# Altium schematic symbol library WCAP-AIE8.SchLib: 31 symbols
Pins are listed as number, name and electrical type; pins without a type are passive.

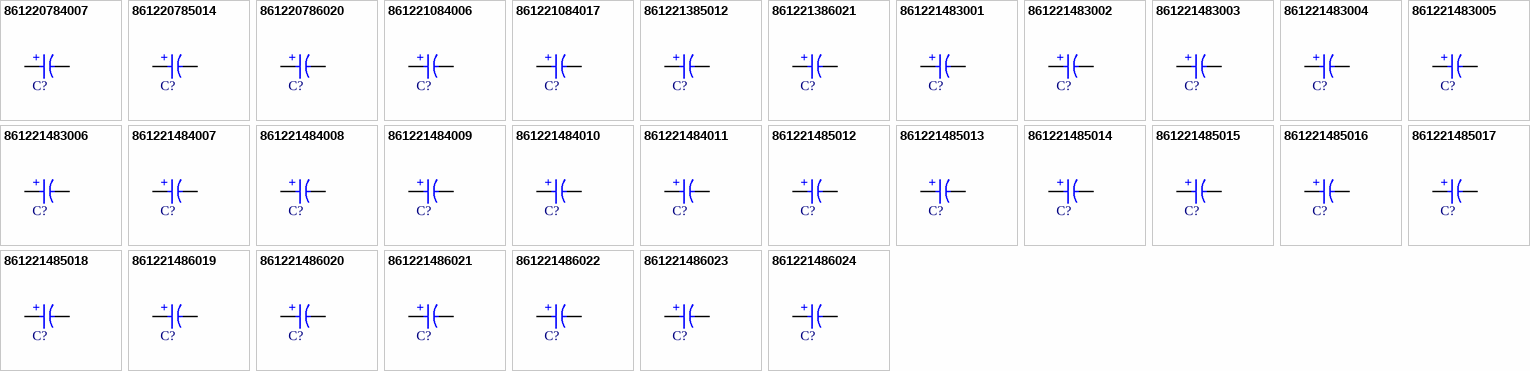
[diagram p0: symbols 861220784007 to 861221486024]

## 861220784007
designator C?, comment 3300µF  (value not drawn)
WCAP-AIE8 Aluminum Electrolytic Capacitor, Snap-In, D25 x H30mm, 3300µF, 63V; Manufacturer Part Number: 861220784007; Manufacturer: Wurth Elektronik; Capacitance Tolerance: +/-20%; Dissipation Factor: 20%; Endurance: 3000h; Leakage Current: 1367.88µA; Ripple Current: 2740mA; Technical Reference: ANBO300332M063DSIC3C000; Category: Aluminum Electrolytic Capacitors; Match Code: WCAP-AIE8; ComponentLink1Description: Website Link; ComponentLink1URL: https://www.we-online.com/redexpert/article/861220784007?ad; ComponentLink2Description: Datasheet Link; ComponentLink2URL: https://www.we-online.com/redexpert/spec/861220784007?ad; Mount: Through Hole; Operating Temperature Max: 85°C; Operating Temperature Min: -40°C; Packaging: Tray; Height: 30mm; Diameter: 25mm; Capacitance: 3300µF; Rated Voltage (DC): 63V
footprint WCAP-AIE8_D25H30
simulation model 861220784007_3.3mF
pins: 1 P, 2 N
text: +

## 861220785014
designator C?, comment 4700µF  (value not drawn)
WCAP-AIE8 Aluminum Electrolytic Capacitor, Snap-In, D30 x H30mm, 4700µF, 63V; Manufacturer Part Number: 861220785014; Manufacturer: Wurth Elektronik; Capacitance Tolerance: +/-20%; Dissipation Factor: 30%; Endurance: 3000h; Leakage Current: 1632.45µA; Ripple Current: 3540mA; Technical Reference: ANBP300472M063DSIC2C000; Category: Aluminum Electrolytic Capacitors; Match Code: WCAP-AIE8; ComponentLink1Description: Website Link; ComponentLink1URL: https://www.we-online.com/redexpert/article/861220785014?ad; ComponentLink2Description: Datasheet Link; ComponentLink2URL: https://www.we-online.com/redexpert/spec/861220785014?ad; Mount: Through Hole; Operating Temperature Max: 85°C; Operating Temperature Min: -40°C; Packaging: Tray; Height: 30mm; Diameter: 30mm; Capacitance: 4700µF; Rated Voltage (DC): 63V
footprint WCAP-AIE8_D30H30
simulation model 861220785014_4.7mF
pins: 1 P, 2 N
text: +

## 861220786020
designator C?, comment 6800µF  (value not drawn)
WCAP-AIE8 Aluminum Electrolytic Capacitor, Snap-In, D35 x H30mm, 6800µF, 63V; Manufacturer Part Number: 861220786020; Manufacturer: Wurth Elektronik; Capacitance Tolerance: +/-20%; Dissipation Factor: 30%; Endurance: 3000h; Leakage Current: 1963.57µA; Ripple Current: 4440mA; Technical Reference: ANBQ300682M063DSIC2C000; Category: Aluminum Electrolytic Capacitors; Match Code: WCAP-AIE8; ComponentLink1Description: Website Link; ComponentLink1URL: https://www.we-online.com/redexpert/article/861220786020?ad; ComponentLink2Description: Datasheet Link; ComponentLink2URL: https://www.we-online.com/redexpert/spec/861220786020?ad; Mount: Through Hole; Operating Temperature Max: 85°C; Operating Temperature Min: -40°C; Packaging: Tray; Height: 30mm; Diameter: 35mm; Capacitance: 6800µF; Rated Voltage (DC): 63V
footprint WCAP-AIE8_D35H30
simulation model 861220786020_6.8mF
pins: 1 P, 2 N
text: +

## 861221084006
designator C?, comment 470µF  (value not drawn)
WCAP-AIE8 Aluminum Electrolytic Capacitor, Snap-In, D25 x H25mm, 470µF, 200V; Manufacturer Part Number: 861221084006; Manufacturer: Wurth Elektronik; Capacitance Tolerance: +/-20%; Dissipation Factor: 15%; Endurance: 3000h; Leakage Current: 919.78µA; Ripple Current: 1950mA; Technical Reference: ANAO250471M200DSIC3C000; Category: Aluminum Electrolytic Capacitors; Match Code: WCAP-AIE8; ComponentLink1Description: Website Link; ComponentLink1URL: https://www.we-online.com/redexpert/article/861221084006?ad; ComponentLink2Description: Datasheet Link; ComponentLink2URL: https://www.we-online.com/redexpert/spec/861221084006?ad; Mount: Through Hole; Operating Temperature Max: 85°C; Operating Temperature Min: -25°C; Packaging: Tray; Height: 25mm; Diameter: 25mm; Capacitance: 470µF; Rated Voltage (DC): 200V
footprint WCAP-AIE8_D25H25
simulation model 861221084006_0.47mF
pins: 1 P, 2 N
text: +

## 861221084017
designator C?, comment 1000µF  (value not drawn)
WCAP-AIE8 Aluminum Electrolytic Capacitor, Snap-In, D25 x H40mm, 1000µF, 200V; Manufacturer Part Number: 861221084017; Manufacturer: Wurth Elektronik; Capacitance Tolerance: +/-20%; Dissipation Factor: 15%; Endurance: 3000h; Leakage Current: 1341.64µA; Ripple Current: 3280mA; Technical Reference: ANAO400102M200DSIC3C000; Category: Aluminum Electrolytic Capacitors; Match Code: WCAP-AIE8; ComponentLink1Description: Website Link; ComponentLink1URL: https://www.we-online.com/redexpert/article/861221084017?ad; ComponentLink2Description: Datasheet Link; ComponentLink2URL: https://www.we-online.com/redexpert/spec/861221084017?ad; Mount: Through Hole; Operating Temperature Max: 85°C; Operating Temperature Min: -25°C; Packaging: Tray; Height: 40mm; Diameter: 25mm; Capacitance: 1000µF; Rated Voltage (DC): 200V
footprint WCAP-AIE8_D25H40
simulation model 861221084017_1mF
pins: 1 P, 2 N
text: +

## 861221385012
designator C?, comment 220µF  (value not drawn)
WCAP-AIE8 Aluminum Electrolytic Capacitor, Snap-In, D30 x H30mm, 220µF, 400V; Manufacturer Part Number: 861221385012; Manufacturer: Wurth Elektronik; Capacitance Tolerance: +/-20%; Dissipation Factor: 20%; Endurance: 3000h; Leakage Current: 889.94µA; Ripple Current: 1660mA; Technical Reference: ANAP300221M400DSIC2C000; Category: Aluminum Electrolytic Capacitors; Match Code: WCAP-AIE8; ComponentLink1Description: Website Link; ComponentLink1URL: https://www.we-online.com/redexpert/article/861221385012?ad; ComponentLink2Description: Datasheet Link; ComponentLink2URL: https://www.we-online.com/redexpert/spec/861221385012?ad; Mount: Through Hole; Operating Temperature Max: 85°C; Operating Temperature Min: -25°C; Packaging: Tray; Height: 30mm; Diameter: 30mm; Capacitance: 220µF; Rated Voltage (DC): 400V
footprint WCAP-AIE8_D30H30
simulation model 861221385012_0.22mF
pins: 1 P, 2 N
text: +

## 861221386021
designator C?, comment 470µF  (value not drawn)
WCAP-AIE8 Aluminum Electrolytic Capacitor, Snap-In, D35 x H35mm, 470µF, 400V; Manufacturer Part Number: 861221386021; Manufacturer: Wurth Elektronik; Capacitance Tolerance: +/-20%; Dissipation Factor: 20%; Endurance: 3000h; Leakage Current: 1300.77µA; Ripple Current: 2510mA; Technical Reference: ANAQ350471M400DSIC2C000; Category: Aluminum Electrolytic Capacitors; Match Code: WCAP-AIE8; ComponentLink1Description: Website Link; ComponentLink1URL: https://www.we-online.com/redexpert/article/861221386021?ad; ComponentLink2Description: Datasheet Link; ComponentLink2URL: https://www.we-online.com/redexpert/spec/861221386021?ad; Mount: Through Hole; Operating Temperature Max: 85°C; Operating Temperature Min: -25°C; Packaging: Tray; Height: 35mm; Diameter: 35mm; Capacitance: 470µF; Rated Voltage (DC): 400V
footprint WCAP-AIE8_D35H35
simulation model 861221386021_0.47mF
pins: 1 P, 2 N
text: +

## 861221483001
designator C?, comment 68µF  (value not drawn)
WCAP-AIE8 Aluminum Electrolytic Capacitor, Snap-In, D22 x H25mm, 68µF, 450V; Manufacturer Part Number: 861221483001; Manufacturer: Wurth Elektronik; Capacitance Tolerance: +/-20%; Dissipation Factor: 20%; Endurance: 3000h; Leakage Current: 524.79µA; Ripple Current: 710mA; Technical Reference: ANAN250680M450DSIC3C000; Category: Aluminum Electrolytic Capacitors; Match Code: WCAP-AIE8; ComponentLink1Description: Website Link; ComponentLink1URL: https://www.we-online.com/redexpert/article/861221483001?ad; ComponentLink2Description: Datasheet Link; ComponentLink2URL: https://www.we-online.com/redexpert/spec/861221483001?ad; Mount: Through Hole; Operating Temperature Max: 85°C; Operating Temperature Min: -25°C; Packaging: Tray; Height: 25mm; Diameter: 22mm; Capacitance: 68µF; Rated Voltage (DC): 450V
footprint WCAP-AIE8_D22H25
simulation model 861221483001_68uF
pins: 1 P, 2 N
text: +

## 861221483002
designator C?, comment 82µF  (value not drawn)
WCAP-AIE8 Aluminum Electrolytic Capacitor, Snap-In, D22 x H25mm, 82µF, 450V; Manufacturer Part Number: 861221483002; Manufacturer: Wurth Elektronik; Capacitance Tolerance: +/-20%; Dissipation Factor: 20%; Endurance: 3000h; Leakage Current: 576.28µA; Ripple Current: 860mA; Technical Reference: ANAN250820M450DSIC3C000; Category: Aluminum Electrolytic Capacitors; Match Code: WCAP-AIE8; ComponentLink1Description: Website Link; ComponentLink1URL: https://www.we-online.com/redexpert/article/861221483002?ad; ComponentLink2Description: Datasheet Link; ComponentLink2URL: https://www.we-online.com/redexpert/spec/861221483002?ad; Mount: Through Hole; Operating Temperature Max: 85°C; Operating Temperature Min: -25°C; Packaging: Tray; Height: 25mm; Diameter: 22mm; Capacitance: 82µF; Rated Voltage (DC): 450V
footprint WCAP-AIE8_D22H25
simulation model 861221483002_82uF
pins: 1 P, 2 N
text: +

## 861221483003
designator C?, comment 100µF  (value not drawn)
WCAP-AIE8 Aluminum Electrolytic Capacitor, Snap-In, D22 x H30mm, 100µF, 450V; Manufacturer Part Number: 861221483003; Manufacturer: Wurth Elektronik; Capacitance Tolerance: +/-20%; Dissipation Factor: 20%; Endurance: 3000h; Leakage Current: 636.4µA; Ripple Current: 950mA; Technical Reference: ANAN300101M450DSIC3C000; Category: Aluminum Electrolytic Capacitors; Match Code: WCAP-AIE8; ComponentLink1Description: Website Link; ComponentLink1URL: https://www.we-online.com/redexpert/article/861221483003?ad; ComponentLink2Description: Datasheet Link; ComponentLink2URL: https://www.we-online.com/redexpert/spec/861221483003?ad; Mount: Through Hole; Operating Temperature Max: 85°C; Operating Temperature Min: -25°C; Packaging: Tray; Height: 30mm; Diameter: 22mm; Capacitance: 100µF; Rated Voltage (DC): 450V
footprint WCAP-AIE8_D22H30
simulation model 861221483003_0.1mF
pins: 1 P, 2 N
text: +

## 861221483004
designator C?, comment 120µF  (value not drawn)
WCAP-AIE8 Aluminum Electrolytic Capacitor, Snap-In, D22 x H35mm, 120µF, 450V; Manufacturer Part Number: 861221483004; Manufacturer: Wurth Elektronik; Capacitance Tolerance: +/-20%; Dissipation Factor: 20%; Endurance: 3000h; Leakage Current: 697.14µA; Ripple Current: 1070mA; Technical Reference: ANAN350121M450DSIC3C000; Category: Aluminum Electrolytic Capacitors; Match Code: WCAP-AIE8; ComponentLink1Description: Website Link; ComponentLink1URL: https://www.we-online.com/redexpert/article/861221483004?ad; ComponentLink2Description: Datasheet Link; ComponentLink2URL: https://www.we-online.com/redexpert/spec/861221483004?ad; Mount: Through Hole; Operating Temperature Max: 85°C; Operating Temperature Min: -25°C; Packaging: Tray; Height: 35mm; Diameter: 22mm; Capacitance: 120µF; Rated Voltage (DC): 450V
footprint WCAP-AIE8_D22H35
simulation model 861221483004_0.12mF
pins: 1 P, 2 N
text: +

## 861221483005
designator C?, comment 150µF  (value not drawn)
WCAP-AIE8 Aluminum Electrolytic Capacitor, Snap-In, D22 x H40mm, 150µF, 450V; Manufacturer Part Number: 861221483005; Manufacturer: Wurth Elektronik; Capacitance Tolerance: +/-20%; Dissipation Factor: 20%; Endurance: 3000h; Leakage Current: 779.42µA; Ripple Current: 1180mA; Technical Reference: ANAN400151M450DSIC3C000; Category: Aluminum Electrolytic Capacitors; Match Code: WCAP-AIE8; ComponentLink1Description: Website Link; ComponentLink1URL: https://www.we-online.com/redexpert/article/861221483005?ad; ComponentLink2Description: Datasheet Link; ComponentLink2URL: https://www.we-online.com/redexpert/spec/861221483005?ad; Mount: Through Hole; Operating Temperature Max: 85°C; Operating Temperature Min: -25°C; Packaging: Tray; Height: 40mm; Diameter: 22mm; Capacitance: 150µF; Rated Voltage (DC): 450V
footprint WCAP-AIE8_D22H40
simulation model 861221483005_0.15mF
pins: 1 P, 2 N
text: +

## 861221483006
designator C?, comment 180µF  (value not drawn)
WCAP-AIE8 Aluminum Electrolytic Capacitor, Snap-In, D22 x H45mm, 180µF, 450V; Manufacturer Part Number: 861221483006; Manufacturer: Wurth Elektronik; Capacitance Tolerance: +/-20%; Dissipation Factor: 20%; Endurance: 3000h; Leakage Current: 853.81µA; Ripple Current: 1320mA; Technical Reference: ANAN450181M450DSIC3C000; Category: Aluminum Electrolytic Capacitors; Match Code: WCAP-AIE8; ComponentLink1Description: Website Link; ComponentLink1URL: https://www.we-online.com/redexpert/article/861221483006?ad; ComponentLink2Description: Datasheet Link; ComponentLink2URL: https://www.we-online.com/redexpert/spec/861221483006?ad; Mount: Through Hole; Operating Temperature Max: 85°C; Operating Temperature Min: -25°C; Packaging: Tray; Height: 45mm; Diameter: 22mm; Capacitance: 180µF; Rated Voltage (DC): 450V
footprint WCAP-AIE8_D22H45
simulation model 861221483006_0.18mF
pins: 1 P, 2 N
text: +

## 861221484007
designator C?, comment 100µF  (value not drawn)
WCAP-AIE8 Aluminum Electrolytic Capacitor, Snap-In, D25 x H25mm, 100µF, 450V; Manufacturer Part Number: 861221484007; Manufacturer: Wurth Elektronik; Capacitance Tolerance: +/-20%; Dissipation Factor: 20%; Endurance: 3000h; Leakage Current: 636.4µA; Ripple Current: 970mA; Technical Reference: ANAO250101M450DSIC3C000; Category: Aluminum Electrolytic Capacitors; Match Code: WCAP-AIE8; ComponentLink1Description: Website Link; ComponentLink1URL: https://www.we-online.com/redexpert/article/861221484007?ad; ComponentLink2Description: Datasheet Link; ComponentLink2URL: https://www.we-online.com/redexpert/spec/861221484007?ad; Mount: Through Hole; Operating Temperature Max: 85°C; Operating Temperature Min: -25°C; Packaging: Tray; Height: 25mm; Diameter: 25mm; Capacitance: 100µF; Rated Voltage (DC): 450V
footprint WCAP-AIE8_D25H25
simulation model 861221484007_0.1mF
pins: 1 P, 2 N
text: +

## 861221484008
designator C?, comment 120µF  (value not drawn)
WCAP-AIE8 Aluminum Electrolytic Capacitor, Snap-In, D25 x H30mm, 120µF, 450V; Manufacturer Part Number: 861221484008; Manufacturer: Wurth Elektronik; Capacitance Tolerance: +/-20%; Dissipation Factor: 20%; Endurance: 3000h; Leakage Current: 697.14µA; Ripple Current: 1090mA; Technical Reference: ANAO300121M450DSIC3C000; Category: Aluminum Electrolytic Capacitors; Match Code: WCAP-AIE8; ComponentLink1Description: Website Link; ComponentLink1URL: https://www.we-online.com/redexpert/article/861221484008?ad; ComponentLink2Description: Datasheet Link; ComponentLink2URL: https://www.we-online.com/redexpert/spec/861221484008?ad; Mount: Through Hole; Operating Temperature Max: 85°C; Operating Temperature Min: -25°C; Packaging: Tray; Height: 30mm; Diameter: 25mm; Capacitance: 120µF; Rated Voltage (DC): 450V
footprint WCAP-AIE8_D25H30
simulation model 861221484008_0.12mF
pins: 1 P, 2 N
text: +

## 861221484009
designator C?, comment 150µF  (value not drawn)
WCAP-AIE8 Aluminum Electrolytic Capacitor, Snap-In, D25 x H30mm, 150µF, 450V; Manufacturer Part Number: 861221484009; Manufacturer: Wurth Elektronik; Capacitance Tolerance: +/-20%; Dissipation Factor: 20%; Endurance: 3000h; Leakage Current: 779.42µA; Ripple Current: 1250mA; Technical Reference: ANAO300151M450DSIC3C000; Category: Aluminum Electrolytic Capacitors; Match Code: WCAP-AIE8; ComponentLink1Description: Website Link; ComponentLink1URL: https://www.we-online.com/redexpert/article/861221484009?ad; ComponentLink2Description: Datasheet Link; ComponentLink2URL: https://www.we-online.com/redexpert/spec/861221484009?ad; Mount: Through Hole; Operating Temperature Max: 85°C; Operating Temperature Min: -25°C; Packaging: Tray; Height: 30mm; Diameter: 25mm; Capacitance: 150µF; Rated Voltage (DC): 450V
footprint WCAP-AIE8_D25H30
simulation model 861221484009_0.15mF
pins: 1 P, 2 N
text: +

## 861221484010
designator C?, comment 180µF  (value not drawn)
WCAP-AIE8 Aluminum Electrolytic Capacitor, Snap-In, D25 x H35mm, 180µF, 450V; Manufacturer Part Number: 861221484010; Manufacturer: Wurth Elektronik; Capacitance Tolerance: +/-20%; Dissipation Factor: 20%; Endurance: 3000h; Leakage Current: 853.81µA; Ripple Current: 1400mA; Technical Reference: ANAO350181M450DSIC3C000; Category: Aluminum Electrolytic Capacitors; Match Code: WCAP-AIE8; ComponentLink1Description: Website Link; ComponentLink1URL: https://www.we-online.com/redexpert/article/861221484010?ad; ComponentLink2Description: Datasheet Link; ComponentLink2URL: https://www.we-online.com/redexpert/spec/861221484010?ad; Mount: Through Hole; Operating Temperature Max: 85°C; Operating Temperature Min: -25°C; Packaging: Tray; Height: 35mm; Diameter: 25mm; Capacitance: 180µF; Rated Voltage (DC): 450V
footprint WCAP-AIE8_D25H35
simulation model 861221484010_0.18mF
pins: 1 P, 2 N
text: +

## 861221484011
designator C?, comment 220µF  (value not drawn)
WCAP-AIE8 Aluminum Electrolytic Capacitor, Snap-In, D25 x H40mm, 220µF, 450V; Manufacturer Part Number: 861221484011; Manufacturer: Wurth Elektronik; Capacitance Tolerance: +/-20%; Dissipation Factor: 20%; Endurance: 3000h; Leakage Current: 943.93µA; Ripple Current: 1590mA; Technical Reference: ANAO400221M450DSIC3C000; Category: Aluminum Electrolytic Capacitors; Match Code: WCAP-AIE8; ComponentLink1Description: Website Link; ComponentLink1URL: https://www.we-online.com/redexpert/article/861221484011?ad; ComponentLink2Description: Datasheet Link; ComponentLink2URL: https://www.we-online.com/redexpert/spec/861221484011?ad; Mount: Through Hole; Operating Temperature Max: 85°C; Operating Temperature Min: -25°C; Packaging: Tray; Height: 40mm; Diameter: 25mm; Capacitance: 220µF; Rated Voltage (DC): 450V
footprint WCAP-AIE8_D25H40
simulation model 861221484011_0.22mF
pins: 1 P, 2 N
text: +

## 861221485012
designator C?, comment 120µF  (value not drawn)
WCAP-AIE8 Aluminum Electrolytic Capacitor, Snap-In, D30 x H25mm, 120µF, 450V; Manufacturer Part Number: 861221485012; Manufacturer: Wurth Elektronik; Capacitance Tolerance: +/-20%; Dissipation Factor: 20%; Endurance: 3000h; Leakage Current: 697.14µA; Ripple Current: 1120mA; Technical Reference: ANAP250121M450DSIC2C000; Category: Aluminum Electrolytic Capacitors; Match Code: WCAP-AIE8; ComponentLink1Description: Website Link; ComponentLink1URL: https://www.we-online.com/redexpert/article/861221485012?ad; ComponentLink2Description: Datasheet Link; ComponentLink2URL: https://www.we-online.com/redexpert/spec/861221485012?ad; Mount: Through Hole; Operating Temperature Max: 85°C; Operating Temperature Min: -25°C; Packaging: Tray; Height: 25mm; Diameter: 30mm; Capacitance: 120µF; Rated Voltage (DC): 450V
footprint WCAP-AIE8_D30H25
simulation model 861221485012_0.12mF
pins: 1 P, 2 N
text: +

## 861221485013
designator C?, comment 150µF  (value not drawn)
WCAP-AIE8 Aluminum Electrolytic Capacitor, Snap-In, D30 x H25mm, 150µF, 450V; Manufacturer Part Number: 861221485013; Manufacturer: Wurth Elektronik; Capacitance Tolerance: +/-20%; Dissipation Factor: 20%; Endurance: 3000h; Leakage Current: 779.42µA; Ripple Current: 1290mA; Technical Reference: ANAP250151M450DSIC2C000; Category: Aluminum Electrolytic Capacitors; Match Code: WCAP-AIE8; ComponentLink1Description: Website Link; ComponentLink1URL: https://www.we-online.com/redexpert/article/861221485013?ad; ComponentLink2Description: Datasheet Link; ComponentLink2URL: https://www.we-online.com/redexpert/spec/861221485013?ad; Mount: Through Hole; Operating Temperature Max: 85°C; Operating Temperature Min: -25°C; Packaging: Tray; Height: 25mm; Diameter: 30mm; Capacitance: 150µF; Rated Voltage (DC): 450V
footprint WCAP-AIE8_D30H25
simulation model 861221485013_0.15mF
pins: 1 P, 2 N
text: +

## 861221485014
designator C?, comment 180µF  (value not drawn)
WCAP-AIE8 Aluminum Electrolytic Capacitor, Snap-In, D30 x H30mm, 180µF, 450V; Manufacturer Part Number: 861221485014; Manufacturer: Wurth Elektronik; Capacitance Tolerance: +/-20%; Dissipation Factor: 20%; Endurance: 3000h; Leakage Current: 853.81µA; Ripple Current: 1450mA; Technical Reference: ANAP300181M450DSIC2C000; Category: Aluminum Electrolytic Capacitors; Match Code: WCAP-AIE8; ComponentLink1Description: Website Link; ComponentLink1URL: https://www.we-online.com/redexpert/article/861221485014?ad; ComponentLink2Description: Datasheet Link; ComponentLink2URL: https://www.we-online.com/redexpert/spec/861221485014?ad; Mount: Through Hole; Operating Temperature Max: 85°C; Operating Temperature Min: -25°C; Packaging: Tray; Height: 30mm; Diameter: 30mm; Capacitance: 180µF; Rated Voltage (DC): 450V
footprint WCAP-AIE8_D30H30
simulation model 861221485014_0.18mF
pins: 1 P, 2 N
text: +

## 861221485015
designator C?, comment 220µF  (value not drawn)
WCAP-AIE8 Aluminum Electrolytic Capacitor, Snap-In, D30 x H30mm, 220µF, 450V; Manufacturer Part Number: 861221485015; Manufacturer: Wurth Elektronik; Capacitance Tolerance: +/-20%; Dissipation Factor: 20%; Endurance: 3000h; Leakage Current: 943.93µA; Ripple Current: 1640mA; Technical Reference: ANAP300221M450DSIC2C000; Category: Aluminum Electrolytic Capacitors; Match Code: WCAP-AIE8; ComponentLink1Description: Website Link; ComponentLink1URL: https://www.we-online.com/redexpert/article/861221485015?ad; ComponentLink2Description: Datasheet Link; ComponentLink2URL: https://www.we-online.com/redexpert/spec/861221485015?ad; Mount: Through Hole; Operating Temperature Max: 85°C; Operating Temperature Min: -25°C; Packaging: Tray; Height: 30mm; Diameter: 30mm; Capacitance: 220µF; Rated Voltage (DC): 450V
footprint WCAP-AIE8_D30H30
simulation model 861221485015_0.22mF
pins: 1 P, 2 N
text: +

## 861221485016
designator C?, comment 270µF  (value not drawn)
WCAP-AIE8 Aluminum Electrolytic Capacitor, Snap-In, D30 x H35mm, 270µF, 450V; Manufacturer Part Number: 861221485016; Manufacturer: Wurth Elektronik; Capacitance Tolerance: +/-20%; Dissipation Factor: 20%; Endurance: 3000h; Leakage Current: 1045.71µA; Ripple Current: 1890mA; Technical Reference: ANAP350271M450DSIC2C000; Category: Aluminum Electrolytic Capacitors; Match Code: WCAP-AIE8; ComponentLink1Description: Website Link; ComponentLink1URL: https://www.we-online.com/redexpert/article/861221485016?ad; ComponentLink2Description: Datasheet Link; ComponentLink2URL: https://www.we-online.com/redexpert/spec/861221485016?ad; Mount: Through Hole; Operating Temperature Max: 85°C; Operating Temperature Min: -25°C; Packaging: Tray; Height: 35mm; Diameter: 30mm; Capacitance: 270µF; Rated Voltage (DC): 450V
footprint WCAP-AIE8_D30H35
simulation model 861221485016_0.27mF
pins: 1 P, 2 N
text: +

## 861221485017
designator C?, comment 330µF  (value not drawn)
WCAP-AIE8 Aluminum Electrolytic Capacitor, Snap-In, D30 x H40mm, 330µF, 450V; Manufacturer Part Number: 861221485017; Manufacturer: Wurth Elektronik; Capacitance Tolerance: +/-20%; Dissipation Factor: 20%; Endurance: 3000h; Leakage Current: 1156.07µA; Ripple Current: 2120mA; Technical Reference: ANAP400331M450DSIC2C000; Category: Aluminum Electrolytic Capacitors; Match Code: WCAP-AIE8; ComponentLink1Description: Website Link; ComponentLink1URL: https://www.we-online.com/redexpert/article/861221485017?ad; ComponentLink2Description: Datasheet Link; ComponentLink2URL: https://www.we-online.com/redexpert/spec/861221485017?ad; Mount: Through Hole; Operating Temperature Max: 85°C; Operating Temperature Min: -25°C; Packaging: Tray; Height: 40mm; Diameter: 30mm; Capacitance: 330µF; Rated Voltage (DC): 450V
footprint WCAP-AIE8_D30H40
simulation model 861221485017_0.33mF
pins: 1 P, 2 N
text: +

## 861221485018
designator C?, comment 390µF  (value not drawn)
WCAP-AIE8 Aluminum Electrolytic Capacitor, Snap-In, D30 x H45mm, 390µF, 450V; Manufacturer Part Number: 861221485018; Manufacturer: Wurth Elektronik; Capacitance Tolerance: +/-20%; Dissipation Factor: 20%; Endurance: 3000h; Leakage Current: 1256.78µA; Ripple Current: 2350mA; Technical Reference: ANAP450391M450DSIC2C000; Category: Aluminum Electrolytic Capacitors; Match Code: WCAP-AIE8; ComponentLink1Description: Website Link; ComponentLink1URL: https://www.we-online.com/redexpert/article/861221485018?ad; ComponentLink2Description: Datasheet Link; ComponentLink2URL: https://www.we-online.com/redexpert/spec/861221485018?ad; Mount: Through Hole; Operating Temperature Max: 85°C; Operating Temperature Min: -25°C; Packaging: Tray; Height: 45mm; Diameter: 30mm; Capacitance: 390µF; Rated Voltage (DC): 450V
footprint WCAP-AIE8_D30H45
simulation model 861221485018_0.39mF
pins: 1 P, 2 N
text: +

## 861221486019
designator C?, comment 220µF  (value not drawn)
WCAP-AIE8 Aluminum Electrolytic Capacitor, Snap-In, D35 x H25mm, 220µF, 450V; Manufacturer Part Number: 861221486019; Manufacturer: Wurth Elektronik; Capacitance Tolerance: +/-20%; Dissipation Factor: 20%; Endurance: 3000h; Leakage Current: 943.93µA; Ripple Current: 1590mA; Technical Reference: ANAQ250221M450DSIC2C000; Category: Aluminum Electrolytic Capacitors; Match Code: WCAP-AIE8; ComponentLink1Description: Website Link; ComponentLink1URL: https://www.we-online.com/redexpert/article/861221486019?ad; ComponentLink2Description: Datasheet Link; ComponentLink2URL: https://www.we-online.com/redexpert/spec/861221486019?ad; Mount: Through Hole; Operating Temperature Max: 85°C; Operating Temperature Min: -25°C; Packaging: Tray; Height: 25mm; Diameter: 35mm; Capacitance: 220µF; Rated Voltage (DC): 450V
footprint WCAP-AIE8_D35H25
simulation model 861221486019_0.22mF
pins: 1 P, 2 N
text: +

## 861221486020
designator C?, comment 270µF  (value not drawn)
WCAP-AIE8 Aluminum Electrolytic Capacitor, Snap-In, D35 x H30mm, 270µF, 450V; Manufacturer Part Number: 861221486020; Manufacturer: Wurth Elektronik; Capacitance Tolerance: +/-20%; Dissipation Factor: 20%; Endurance: 3000h; Leakage Current: 1045.71µA; Ripple Current: 1900mA; Technical Reference: ANAQ300271M450DSIC2C000; Category: Aluminum Electrolytic Capacitors; Match Code: WCAP-AIE8; ComponentLink1Description: Website Link; ComponentLink1URL: https://www.we-online.com/redexpert/article/861221486020?ad; ComponentLink2Description: Datasheet Link; ComponentLink2URL: https://www.we-online.com/redexpert/spec/861221486020?ad; Mount: Through Hole; Operating Temperature Max: 85°C; Operating Temperature Min: -25°C; Packaging: Tray; Height: 30mm; Diameter: 35mm; Capacitance: 270µF; Rated Voltage (DC): 450V
footprint WCAP-AIE8_D35H30
simulation model 861221486020_0.27mF
pins: 1 P, 2 N
text: +

## 861221486021
designator C?, comment 330µF  (value not drawn)
WCAP-AIE8 Aluminum Electrolytic Capacitor, Snap-In, D35 x H35mm, 330µF, 450V; Manufacturer Part Number: 861221486021; Manufacturer: Wurth Elektronik; Capacitance Tolerance: +/-20%; Dissipation Factor: 20%; Endurance: 3000h; Leakage Current: 1156.07µA; Ripple Current: 2150mA; Technical Reference: ANAQ350331M450DSIC2C000; Category: Aluminum Electrolytic Capacitors; Match Code: WCAP-AIE8; ComponentLink1Description: Website Link; ComponentLink1URL: https://www.we-online.com/redexpert/article/861221486021?ad; ComponentLink2Description: Datasheet Link; ComponentLink2URL: https://www.we-online.com/redexpert/spec/861221486021?ad; Mount: Through Hole; Operating Temperature Max: 85°C; Operating Temperature Min: -25°C; Packaging: Tray; Height: 35mm; Diameter: 35mm; Capacitance: 330µF; Rated Voltage (DC): 450V
footprint WCAP-AIE8_D35H35
simulation model 861221486021_0.33mF
pins: 1 P, 2 N
text: +

## 861221486022
designator C?, comment 390µF  (value not drawn)
WCAP-AIE8 Aluminum Electrolytic Capacitor, Snap-In, D35 x H40mm, 390µF, 450V; Manufacturer Part Number: 861221486022; Manufacturer: Wurth Elektronik; Capacitance Tolerance: +/-20%; Dissipation Factor: 20%; Endurance: 3000h; Leakage Current: 1256.78µA; Ripple Current: 2380mA; Technical Reference: ANAQ400391M450DSIC2C000; Category: Aluminum Electrolytic Capacitors; Match Code: WCAP-AIE8; ComponentLink1Description: Website Link; ComponentLink1URL: https://www.we-online.com/redexpert/article/861221486022?ad; ComponentLink2Description: Datasheet Link; ComponentLink2URL: https://www.we-online.com/redexpert/spec/861221486022?ad; Mount: Through Hole; Operating Temperature Max: 85°C; Operating Temperature Min: -25°C; Packaging: Tray; Height: 40mm; Diameter: 35mm; Capacitance: 390µF; Rated Voltage (DC): 450V
footprint WCAP-AIE8_D35H40
simulation model 861221486022_0.39mF
pins: 1 P, 2 N
text: +

## 861221486023
designator C?, comment 470µF  (value not drawn)
WCAP-AIE8 Aluminum Electrolytic Capacitor, Snap-In, D35 x H45mm, 470µF, 450V; Manufacturer Part Number: 861221486023; Manufacturer: Wurth Elektronik; Capacitance Tolerance: +/-20%; Dissipation Factor: 20%; Endurance: 3000h; Leakage Current: 1379.67µA; Ripple Current: 2680mA; Technical Reference: ANAQ450471M450DSIC2C000; Category: Aluminum Electrolytic Capacitors; Match Code: WCAP-AIE8; ComponentLink1Description: Website Link; ComponentLink1URL: https://www.we-online.com/redexpert/article/861221486023?ad; ComponentLink2Description: Datasheet Link; ComponentLink2URL: https://www.we-online.com/redexpert/spec/861221486023?ad; Mount: Through Hole; Operating Temperature Max: 85°C; Operating Temperature Min: -25°C; Packaging: Tray; Height: 45mm; Diameter: 35mm; Capacitance: 470µF; Rated Voltage (DC): 450V
footprint WCAP-AIE8_D35H45
simulation model 861221486023_0.47mF
pins: 1 P, 2 N
text: +

## 861221486024
designator C?, comment 560µF  (value not drawn)
WCAP-AIE8 Aluminum Electrolytic Capacitor, Snap-In, D35 x H50mm, 560µF, 450V; Manufacturer Part Number: 861221486024; Manufacturer: Wurth Elektronik; Capacitance Tolerance: +/-20%; Dissipation Factor: 20%; Endurance: 3000h; Leakage Current: 1505.99µA; Ripple Current: 2880mA; Technical Reference: ANAQ500561M450DSIC2C000; Category: Aluminum Electrolytic Capacitors; Match Code: WCAP-AIE8; ComponentLink1Description: Website Link; ComponentLink1URL: https://www.we-online.com/redexpert/article/861221486024?ad; ComponentLink2Description: Datasheet Link; ComponentLink2URL: https://www.we-online.com/redexpert/spec/861221486024?ad; Mount: Through Hole; Operating Temperature Max: 85°C; Operating Temperature Min: -25°C; Packaging: Tray; Height: 50mm; Diameter: 35mm; Capacitance: 560µF; Rated Voltage (DC): 450V
footprint WCAP-AIE8_D35H50
simulation model 861221486024_0.56mF
pins: 1 P, 2 N
text: +